# Altium footprint library UDEMY_Library.PcbLib: 35 footprints (part 1 of 3)
Each footprint in its own frame and in the unit in brackets; x right, y up, seen from the top. Pads: shape width x height; smd on the part's side, far side on the other; paste and mask are expansions set on the pad; w line width, h text height; cw(c..) or ccw(c..) is an arc to the next point about the centre after c.
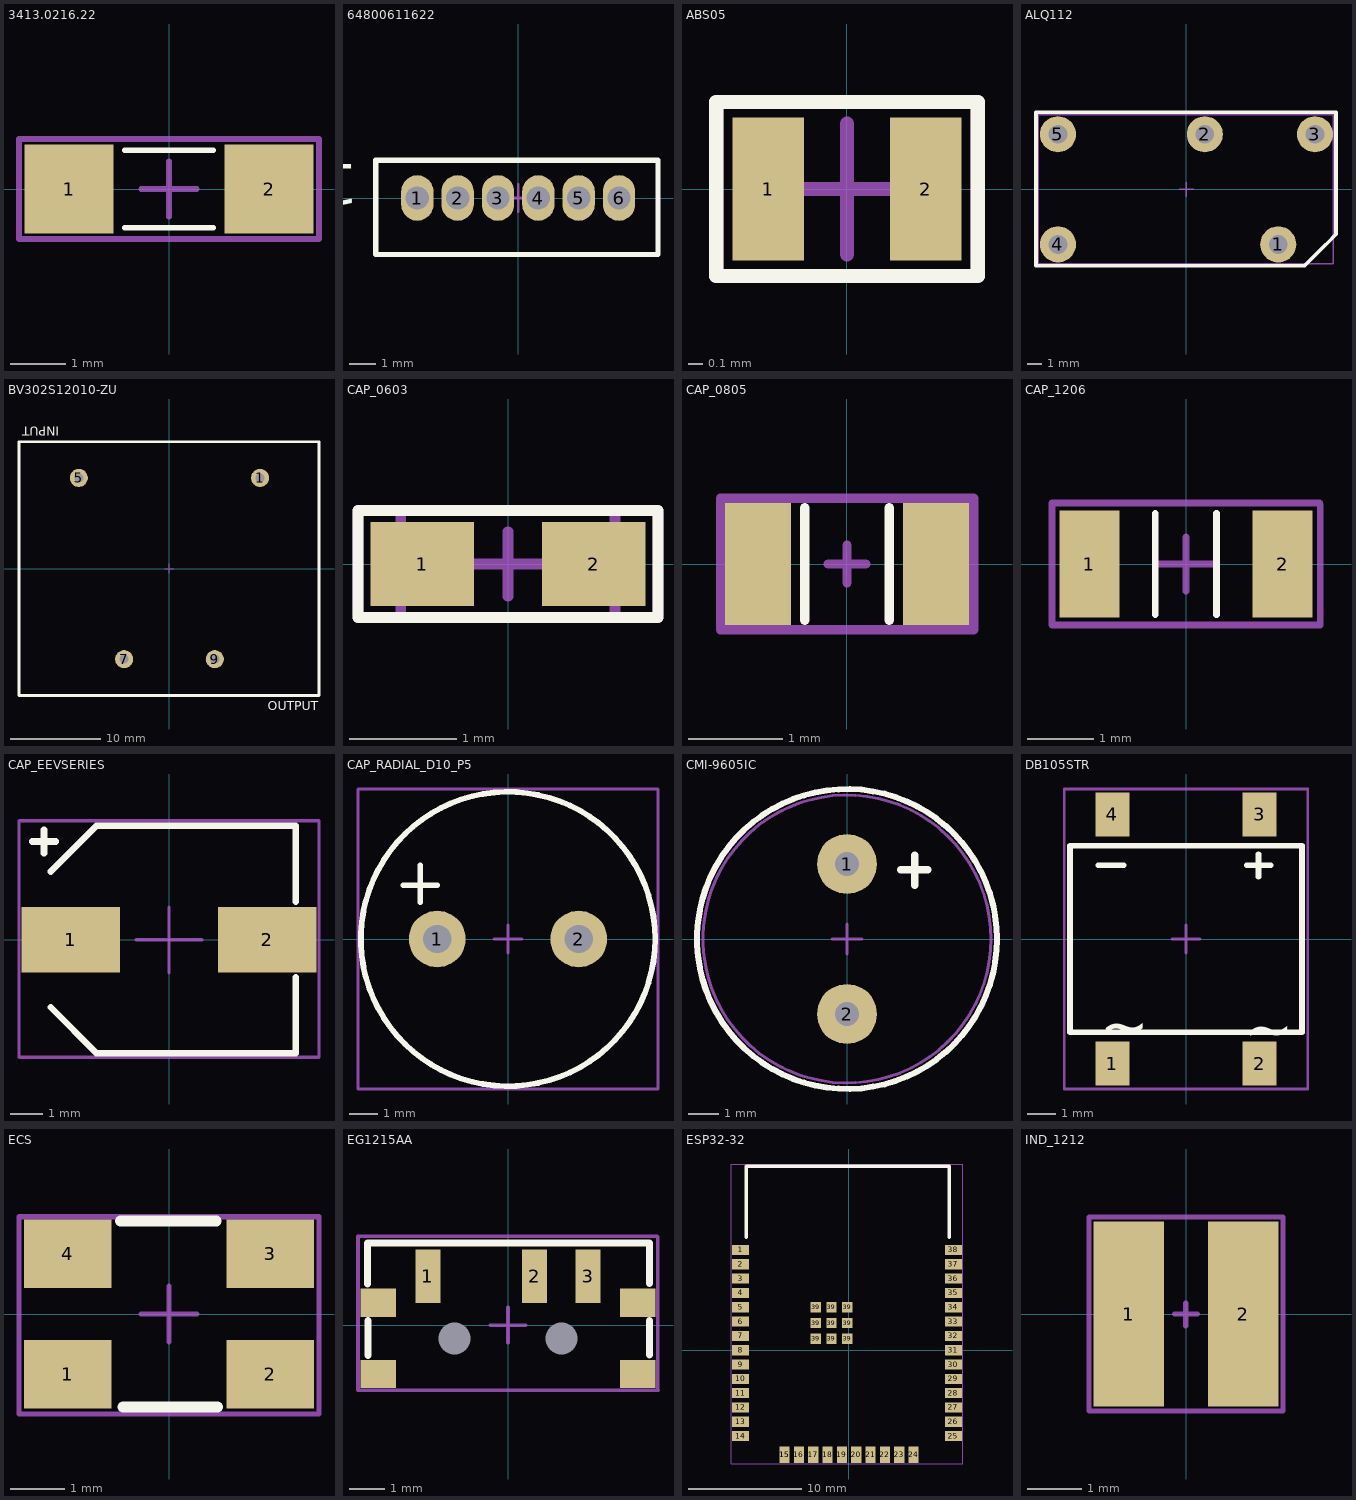
[diagram p0: the footprints below, top view; thin cyan lines are the x and y axes]

## 3413.0216.22 [mm]
pads (2):
  rect 1.6x1.6 smd mask+0.05: 1(-1.8,0) 2(1.8,0)
Top Overlay:
  lines w0.1: -0.8,-0.7 0.8,-0.7 ; -0.8,0.7 0.8,0.7
Top Component Center:
  lines w0.1: -0.5,0 0.5,0 0,0 0,0.5 0,-0.5 ; -2.7,-0.9 2.7,-0.9 2.7,0.9 -2.7,0.9 -2.7,-0.9
Top Designator:
  lines w0.1: -2.7,-0.9 2.7,-0.9 2.7,0.9 -2.7,0.9 -2.7,-0.9
  text ".Designator" at -4.746,-0.413 h1
3D body "fuse.stp": height 0.4, standoff 0, extent -1.75,-0.825 1.5,0.825

## 64800611622 [mm]
pads (6):
  oval 1.2x1.7 hole 0.87 mask+0.05: 1(-3.75,0) 2(-2.25,0) 3(-0.75,0) 4(0.75,0) 5(2.25,0) 6(3.75,0)
Top Overlay:
  lines w0.2: -5.3,-2.1 5.2,-2.1 5.2,1.4 -5.3,1.4 -5.3,-2.1
  text "1" at -5.954,1.246 h1.52
Top Component Center:
  lines w0.1: 0,-0.5 0,0.5 0,0 ; 0,0 0.5,0 -0.5,0 0,0 ; -5.3,-2.1 5.2,-2.1 5.2,1.4 -5.3,1.4 -5.3,-2.1
Top Designator:
  lines w0.1: -5.3,-2.1 5.2,-2.1 5.2,1.4 -5.3,1.4 -5.3,-2.1
  text ".Designator" at -8.046,-0.938 h1.52
3D body "64800611622 (rev1).stp": height 4.45, standoff -2.75, extent -5.25,-2.1 5.25,1.4

## ABS05 [mm]
pads (2):
  rect 0.5x1 smd mask+0.05: 1(-0.55,0) 2(0.55,0)
Top Overlay:
  lines w0.1: -0.914,-0.61 -0.914,0.61 0.914,0.61 0.914,-0.61 -0.914,-0.61
Top Component Center:
  lines w0.1: -0.457,0 0,0 ; 0,-0.457 0,0 ; 0,0.457 0,0 ; 0.457,0 0,0 ; -0.914,-0.61 -0.914,0.61 0.914,0.61 0.914,-0.61 -0.914,-0.61
Top Designator:
  lines w0.1: -0.914,-0.61 0.914,-0.61 0.914,0.61 -0.914,0.61 -0.914,-0.61
  text ".Designator" at -4.343,-0.302 h1
3D body "ABS05-32.768KHZ-T--3DModel-STEP-400430.STEP": height 0.5, standoff 0, extent -0.8,-0.5 0.8,0.5

## ALQ112 [mm]
pads (5):
  round 2.5 hole 1.3 mask+0.05: 1(6.35,-3.81) 2(1.27,3.81) 3(8.89,3.81) 4(-8.89,-3.81) 5(-8.89,3.81)
Top Overlay:
  lines w0.25: -10.409,-5.3 8.154,-5.3 8.19,-5.264 9.581,-3.873 9.763,-3.691 10.344,-3.11 10.344,5.344 -10.409,5.344 -10.409,-5.3
Top Component Center:
  lines w0.1: -0.5,0 0.5,0 0,0 0,-0.5 0,0.5 ; -10.237,-5.141 -10.237,5.159 10.168,5.159 10.168,-5.141 -10.237,-5.141
Top Designator:
  lines w0.1: -10.237,-5.141 -10.237,5.159 10.168,5.159 10.168,-5.141 -10.237,-5.141
  text ".Designator" at -2.288,-0.251 h1.52
3D body: height 0.2, standoff -4, extent 5.95,-3.965 6.751,-3.655
3D body: height 0.2, standoff -4, extent 8.49,3.655 9.291,3.965
3D body: height 0.2, standoff -4, extent 0.87,3.655 1.671,3.965
3D body: height 0.45, standoff -3.75, extent -9.29,-4.21 -8.49,-3.41
3D body: height 0.45, standoff -3.75, extent -9.29,3.41 -8.49,4.21
3D body: height 15.6, standoff 0.4, extent 7.998,-3.982 8.998,-2.982
3D body: height 15.6, standoff 0.4, extent -10,-4.98 10,5.02

## BV302S12010-ZU [mm]
pads (4):
  round 2 hole 1 mask+0.05: 1(10,10) 5(-10,10) 7(-5,-10) 9(5,-10)
Top Overlay:
  lines w0.3: -16.6,-14 16.5,-14 16.5,14 -16.6,14 -16.6,-14
  text "OUTPUT" at 10.854,-15.646 h1
  text "INPUT" at -12.154,15.646 h1
Top Component Center:
  lines w0.1: -0.5,0 0.5,0 0,0 0,-0.5 0,0.5 ; -16.6,-14.1 -16.6,14 16.4,14 16.5,13.9 16.5,-14 16.4,-14.1 -16.6,-14.1
Top Designator:
  lines w0.1: -16.6,-14.1 16.4,-14.1 16.5,-14 16.5,13.9 16.4,14 -16.6,14 -16.6,-14.1
  text ".Designator" at -7.546,-0.538 h1.52
3D body "User Library-Hahn BV EI 302 2902.step": height 21.8, standoff -4.5, extent -16.25,-13.75 16.25,13.75

## CAP_0603 [mil]
pads (2):
  rect 38x31 smd mask+1.97: 1(-31.5,0) 2(31.5,0)
Top Overlay:
  lines w3.94: -55.12,-19.68 27.56,-19.68 55.12,-19.68 55.12,19.68 -51.18,19.68 -55.12,19.68 -55.12,-19.68
Top Component Center:
  lines w3.94: -55.12,19.68 -55.12,-19.68 -13.78,-19.68 55.12,-19.68 55.12,19.68 -53.15,19.68 ; -11.81,0 11.81,0 ; 0,-11.81 0,11.81
Top Designator:
  lines w3.94: -53.15,19.68 11.81,19.68 55.12,19.68 55.12,-19.68 -55.12,-19.68 -55.12,19.68 -39.37,19.68
  text ".Designator" at -39.37,-9.19 h19.68
Mechanical 13:
  lines w3.94: -39.37,-11.81 -39.37,-19.68 ; 39.31,11.81 39.31,19.68 33.46,19.68 1.97,19.68 -39.37,19.68 -39.37,-19.68 ; 39.37,11.81 39.37,-11.81 ; -39.37,-19.68 -34.45,-19.68 ; -39.37,-19.68 -34.45,-19.68 ; -34.45,-19.68 0,-19.68 39.34,-19.68 39.34,-11.81 ; 39.34,-11.81 39.37,-11.81
3D body "CAPC0603.STEP": height 31.5, standoff 0, extent -41.28,-20.82 41.43,19.69

## CAP_0805 [mm]
pads (2):
  rect 0.7x1.3 smd mask+0.05: ""(-0.95,0) ""(0.95,0)
Top Overlay:
  lines w0.1: -0.45,-0.6 -0.45,0.6 ; 0.45,-0.6 0.45,0.6
Top Component Center:
  lines w0.1: -0.2,0 0.2,0 0,0 0,0.2 0,-0.2 ; -1.35,-0.7 -1.35,0.7 1.35,0.7 1.35,-0.7 -1.35,-0.7
Top Designator:
  lines w0.1: -1.35,-0.7 1.35,-0.7 1.35,0.7 -1.35,0.7 -1.35,-0.7
  text ".Designator" at -4.746,-0.313 h1
3D body "C2012X5R1E475K125AB.STEP": height 1.23, standoff -0.02, extent -0.997,-0.719 1.003,0.731

## CAP_1206 [mm]
pads (2):
  rect 0.9x1.6 smd mask+0.05: 1(-1.45,0) 2(1.45,0)
Top Overlay:
  lines w0.1: -0.459,-0.762 -0.459,0.762 ; 0.457,-0.762 0.457,0.762
Top Component Center:
  lines w0.1: -0.406,0 0,0 ; 0,-0.406 0,0 ; 0.406,0 0,0 ; 2.004,0.914 -2.009,0.914 -2.009,-0.913 2.015,-0.913 2.015,-0.487 2.015,0.428 2.015,0.885 ; 0,0 0,0.406 0,0
Top Designator:
  lines w0.1: 2.004,0.914 -2.009,0.914 -2.009,-0.913 2.015,-0.913 2.015,-0.487 2.015,0.428 2.015,0.885
  text ".Designator" at -5.156,-0.327 h1
3D body "CAP1206.STEP": height 1.6, standoff 0, extent -1.597,-0.913 1.603,0.887

## CAP_EEVSERIES [mm]
pads (2):
  rect 3x2 smd mask+0.05: 1(-3,0) 2(3,0)
Top Overlay:
  lines w0.2: -4.166,2.997 -3.454,2.997 ; -3.81,2.642 -3.81,3.353 ; -3.607,-2.057 -2.21,-3.454 3.861,-3.454 3.861,-1.143 ; -3.607,2.083 -2.21,3.48 3.861,3.48 3.861,1.168
Top Component Center:
  lines w0.1: 0,-1 0,1 0,0 ; 0,0 -1,0 1,0 0,0 ; -4.572,-3.581 -4.572,3.632 -2.108,3.632 4.572,3.632 4.572,-3.581 -4.572,-3.581
Top Designator:
  lines w0.1: -4.572,-3.581 -4.572,3.632 -2.108,3.632 4.572,3.632 4.572,-3.581 -4.572,-3.581
  text ".Designator" at -6.746,-0.238 h1.52
3D body "EEV686M035A9HAA.step": height 8.01, standoff 0, extent -3.851,-3.396 3.749,3.404

## CAP_RADIAL_D10_P5 [mm]
pads (2):
  round 2 hole 1 mask+0.05: 1(-2.5,0) 2(2.5,0)
Top Overlay:
  circle w0.2: c0,0 r5.2
  lines w0.2: -3.7,1.9 -2.5,1.9 -3.1,1.9 -3.1,2.6 -3.1,1.3
Top Component Center:
  lines w0.1: -0.5,0 0.5,0 0,0 0,0.5 0,-0.5 ; -5.3,-5.3 5.3,-5.3 5.3,5.3 -5.3,5.3 -5.3,-5.3
Top Designator:
  lines w0.1: -5.3,-5.3 -5.3,5.3 5.3,5.3 5.3,-5.3 -5.3,-5.3
  text ".Designator" at -7.246,-0.238 h1.52
3D body "ESH477M050AH4AA.step": height 22.2, standoff -19.8, extent -5.25,-5.25 5.25,5.25

## CMI-9605IC [mm]
pads (2):
  round 2 hole 0.8 mask+0.05: 1(0,2.5) 2(0,-2.5)
Top Overlay:
  circle w0.2: c0,0 r5
  lines w0.25: 1.8,2.3 2.7,2.3 ; 2.258,1.8 2.258,2.8
Top Component Center:
  circle w0.1: c0,0 r4.8
  lines w0.1: -0.5,0 0.5,0 0,0 0,-0.5 0,0.5
Top Designator:
  circle w0.1: c0,0 r4.8
  text ".Designator" at -1.746,-0.038 h1.52
3D body: height 5.1, standoff 0.1, extent -4.838,-4.784 4.762,4.816
3D body: height 0.15, standoff -5.35, extent -0.305,2.193 0.295,2.793
3D body: height 1.65, standoff -3.85, extent -0.295,-2.793 0.305,-2.193
3D body: height 5.16, standoff 5.11, extent -4.3,-4.3 4.3,4.3
3D body: height 5.16, standoff 5.11, extent -2,2.3 2,6.3

## DB105STR [mm]
pads (4):
  rect 1.2x1.55 smd mask+0.05: 1(-2.605,-4.4) 2(2.605,-4.4) 3(2.605,4.4) 4(-2.605,4.4)
Top Overlay:
  lines w0.2: -3.1,2.6 -2.2,2.6 ; 2.15,2.6 3,2.6 ; 2.561,2.2 2.561,3 ; -4.1,-3.3 4.1,-3.3 4.1,3.3 -4.1,3.3 -4.1,-3.3
  text "~" at -3.046,-3.816 h1.52
  text "~" at 2.054,-3.916 h1.52
Top Component Center:
  lines w0.1: -0.5,0 0.5,0 0,0 0,-0.5 0,0.5 ; -4.3,-5.3 4.3,-5.3 4.3,5.3 -4.3,5.3 -4.3,-5.3
Top Designator:
  lines w0.1: -4.3,-5.3 4.3,-5.3 4.3,5.3 -4.3,5.3 -4.3,-5.3
  text ".Designator" at -3.146,0.262 h1.52
3D body "User Library-DB107S  DB-S.step": height 2.66, standoff 0, extent -4.16,-5.2 4.16,5.2

## ECS [mm]
pads (4):
  rect 1.6x1.25 smd mask+0.05: 1(-1.85,-1.1) 2(1.85,-1.1) 3(1.85,1.1) 4(-1.85,1.1)
Top Overlay:
  lines w0.2: -0.889,1.702 0.864,1.702 ; -0.838,-1.702 0.889,-1.702
Top Component Center:
  lines w0.1: -0.508,0 0,0 ; 0,-0.508 0,0 ; 0,0.508 0,0 ; 0.508,0 0,0 ; -2.743,-1.829 -2.743,1.778 2.743,1.778 2.743,-1.829 -2.743,-1.829
Top Designator:
  lines w0.1: -2.743,-1.829 2.743,-1.829 2.743,1.778 -2.743,1.778 -2.743,-1.829
  text ".Designator" at -4.775,-0.53 h1
3D body "ECS-160-20-30B-TR.STEP": height 0.85, standoff 0, extent -2.5,-1.6 2.5,1.6

## EG1215AA [mm]
pads (9):
  rect 0.7x1.5 smd mask+0.05: 1(-2.25,1.375) 2(0.75,1.375) 3(2.25,1.375)
  round 0 hole 0.9 mask+0.05: 6(-1.5,-0.375) 6(1.5,-0.375)
  rect 1x0.8 smd mask+0.05: ""(-3.65,-1.375) ""(-3.65,0.625) ""(3.65,-1.375) ""(3.65,0.625)
Top Overlay:
  lines w0.2: -3.946,1.159 -3.946,2.307 3.979,2.307 3.979,1.17 ; -3.938,-0.851 -3.938,0.122 ; 3.974,-0.837 3.974,0.122
Top Component Center:
  lines w0.1: -0.5,0 0.5,0 0,0 ; 0,0.5 0,0 ; 0,0 0,-0.5 0,0 ; -4.217,-1.837 -4.217,2.498 4.191,2.498 4.204,2.485 4.204,-1.824 4.217,-1.837 -4.217,-1.837
Top Designator:
  lines w0.1: -4.217,-1.837 4.217,-1.837 4.204,-1.824 4.204,2.485 4.191,2.498 -4.217,2.498 -4.217,-1.837
  text ".Designator" at -2.946,-0.413 h1
3D body "1437575-1.stp": height 1.4, standoff -0.5, extent -3.836,-3.208 3.864,1.881

## ESP32-32 [mm]
pads (48):
  rect 1.5x0.9 smd mask+0.05: 1(-9.575,8.881) 2(-9.575,7.611) 3(-9.575,6.341) 4(-9.575,5.071) 5(-9.575,3.801) 6(-9.575,2.531) 7(-9.575,1.261) 8(-9.575,-0.009) 9(-9.575,-1.279) 10(-9.575,-2.549) 11(-9.575,-3.819) 12(-9.575,-5.089) 13(-9.575,-6.359) 14(-9.575,-7.629) 25(9.275,-7.629) 26(9.275,-6.359) 27(9.275,-5.089) 28(9.275,-3.819) 29(9.275,-2.549) 30(9.275,-1.279) 31(9.275,-0.009) 32(9.275,1.261) 33(9.275,2.531) 34(9.275,3.801) 35(9.275,5.071) 36(9.275,6.341) 37(9.275,7.611) 38(9.275,8.881)
  rect 0.9x1.5 smd mask+0.05: 15(-5.683,-9.28) 15(-5.683,-9.28) 16(-4.413,-9.28) 17(-3.143,-9.28) 18(-1.873,-9.28) 19(-0.603,-9.28) 20(0.667,-9.28) 21(1.937,-9.28) 22(3.207,-9.28) 23(4.477,-9.28) 24(5.747,-9.28)
  rect 0.9x0.9 smd mask+0.05: 39(-2.925,1) 39(-2.925,2.4) 39(-2.925,3.8) 39(-1.525,1) 39(-1.525,2.4) 39(-1.525,3.8) 39(-0.125,1) 39(-0.125,2.4) 39(-0.125,3.8)
Top Overlay:
  lines w0.3: -9.1,10 -9.1,16.3 -8.5,16.3 8.5,16.3 ; 8.2,16.3 8.8,16.3 ; 8.9,10 8.9,15.7 8.9,16.3
Top Component Center:
  lines w0.1: 4.1,-10.1 10.1,-10.1 ; 10.1,-10.1 10.1,16.5 -6.4,16.5 -9.2,16.5 -10.4,16.5 -10.4,11.3 -10.4,6.2 -10.4,4.9 -10.4,3.7 -10.4,2.2 -10.4,0.6 -10.4,-0.1 -10.4,-8.1 -10.4,-10.1 -4.7,-10.1 10.1,-10.1
Top Designator:
  text ".Designator" at 13.354,2.062 h1.52
3D body "esp-wroom-32.step": height 3, standoff -0.04, extent -9.035,-9.16 9.035,16.38

## IND_1212 [mm]
pads (2):
  rect 1.3x3.4 smd mask+0.05: 1(-1.05,0) 2(1.05,0)
Top Component Center:
  lines w0.1: -0.203,0 0.203,0 0,0 ; -0.006,-0.212 -0.006,0.194 -0.006,-0.009 ; -1.778,-1.778 -1.778,1.778 1.778,1.778 1.778,-1.778 0.889,-1.778 -0.889,-1.778 -1.778,-1.778
Top Designator:
  lines w0.1: -1.778,-1.778 -1.778,1.778 1.778,1.778 1.778,-1.778 0.889,-1.778 -0.889,-1.778 -1.778,-1.778
  text ".Designator" at -4.623,-0.149 h1
3D body "78438335010_Download_STP_WE-MAIA-3015_rev1.stp": height 1.2, standoff 0, extent -1.5,-1.5 1.5,1.5